# Altium footprint library Conn_3M_220-3342-00-0602J_eec_0.PcbLib: 1 footprints
Each footprint in its own frame and in the unit in brackets; x right, y up, seen from the top. Pads: shape width x height; smd on the part's side, far side on the other; paste and mask are expansions set on the pad; w line width, h text height; cw(c..) or ccw(c..) is an arc to the next point about the centre after c.
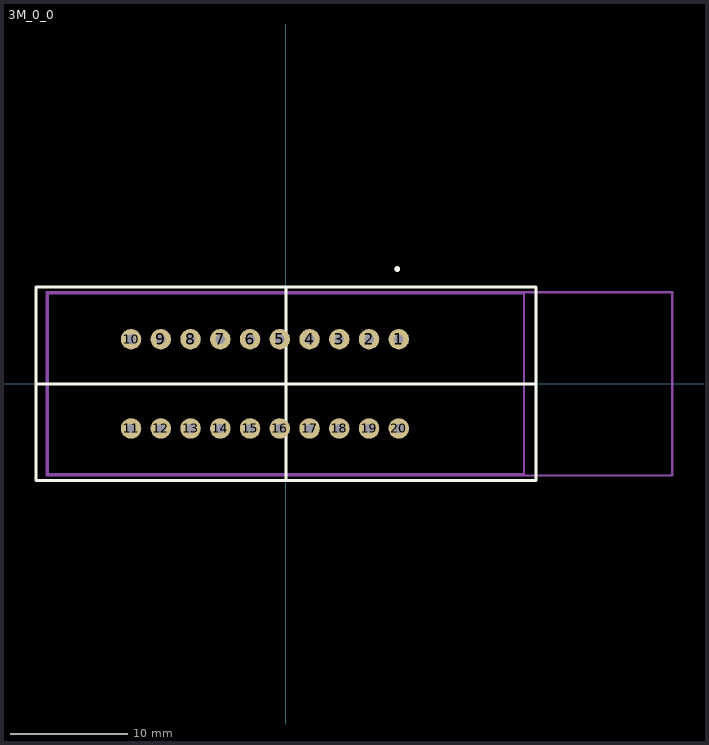
[diagram p0: the footprint, top view; thin cyan lines are the x and y axes]

## 3M_0_0 [mm]
pads (20):
  round 1.75 hole 0.8 paste-1000 mask+0: 1(9.64,3.81) 2(7.1,3.81) 3(4.56,3.81) 4(2.02,3.81) 5(-0.52,3.81) 6(-3.06,3.81) 7(-5.6,3.81) 8(-8.14,3.81) 9(-10.68,3.81) 10(-13.22,3.81) 11(-13.22,-3.81) 12(-10.68,-3.81) 13(-8.14,-3.81) 14(-5.6,-3.81) 15(-3.06,-3.81) 16(-0.52,-3.81) 17(2.02,-3.81) 18(4.56,-3.81) 19(7.1,-3.81) 20(9.64,-3.81)
Top Overlay:
  circle w0.254: c9.5,9.8 r0.125
  lines w0.254: -21.35,0 21.35,0 ; 0,-8.25 0,8.25 ; -21.35,-8.25 -21.35,8.25 21.35,8.25 21.35,-8.25 -21.35,-8.25
Mechanical 10:
  lines w0.2: -20.425,-7.825 -20.425,7.825 32.975,7.825 32.975,-7.825 -20.425,-7.825
  text ".Designator" at 6.275,0.188 h1
Mechanical 12:
  lines w0.2: -20.325,-7.725 -20.325,7.725 20.325,7.725 20.325,-7.725 -20.325,-7.725
Mechanical 15:
  lines w0.1: -0.5,0 0.5,0 ; 0,-0.5 0,0.5
  lines w0.2: -20.425,-7.825 -20.425,7.825 32.975,7.825 32.975,-7.825 -20.425,-7.825
3D body "Conn_3M_220-3342-00-0602J_eec.STEP": height 24.39, standoff -2.28, extent -20.2,-7.623 20.2,7.6